# Altium footprint library Snap-in Capacitor.PcbLib: 1 footprints
Each footprint in its own frame and in the unit in brackets; x right, y up, seen from the top. Pads: shape width x height; smd on the part's side, far side on the other; paste and mask are expansions set on the pad; w line width, h text height; cw(c..) or ccw(c..) is an arc to the next point about the centre after c.
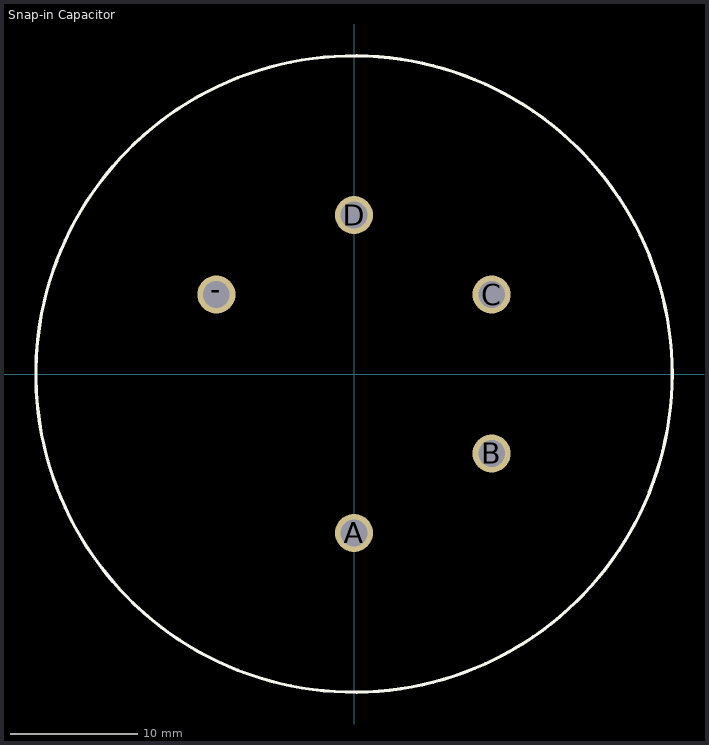
[diagram p0: the footprint, top view; thin cyan lines are the x and y axes]

## Snap-in Capacitor [mm] "50mm, 5 pin snap in capacitor"
height 105
pads (5):
  round 3 hole 2.1: -(-10.82,6.248) A(0,-12.497) B(10.82,-6.248) C(10.82,6.248) D(0,12.497)
Top Overlay:
  circle w0.254: c0,0 r25.019
  text ".Designator" at -7.747,0 h1.52